# Altium integrated library TI Data Converters Digital to Analog Converter.IntLib: 1533 symbols (part 58 of 99)
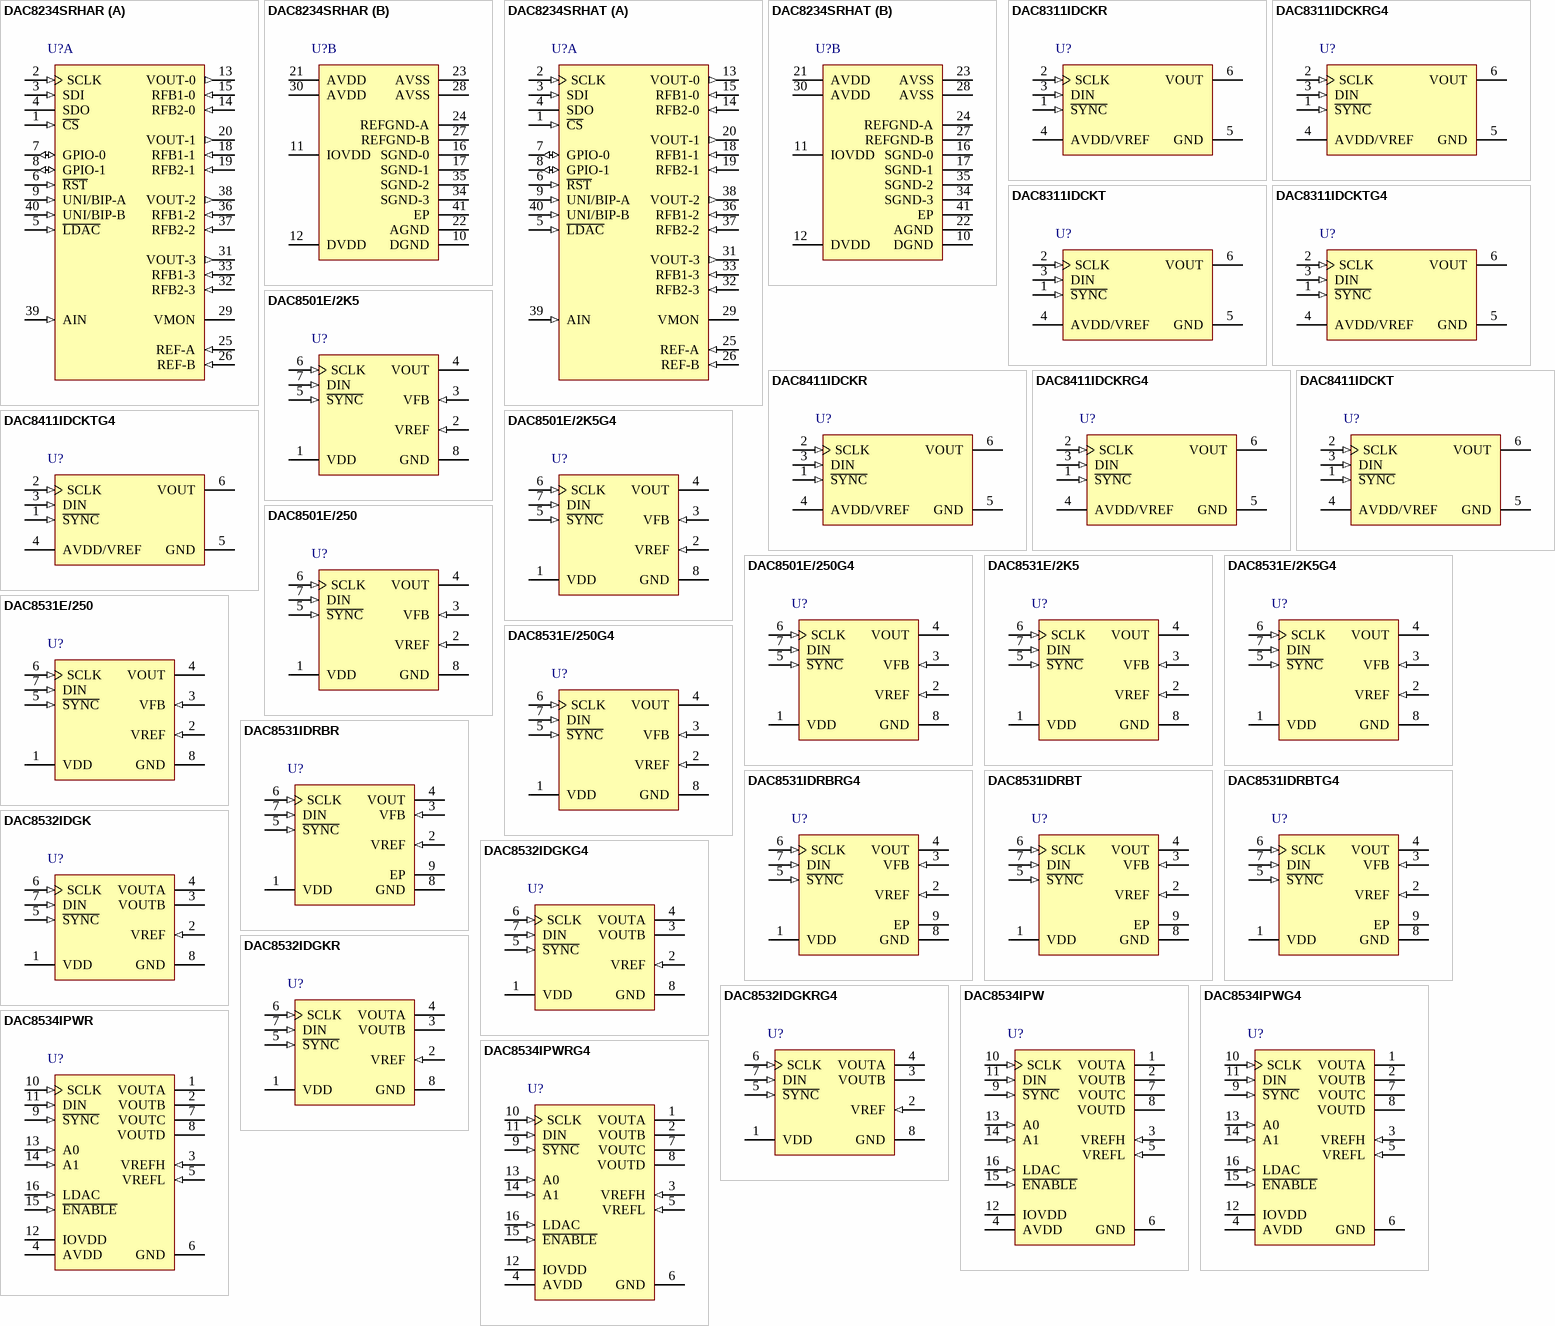
[diagram p130: symbols DAC8234SRHAR to DAC8534IPWRG4]

## DAC8531E/250
designator U?
Low Power, Rail-to-Rail Output, 16-Bit, Serial Input DAC, -40 to 105 degC, 8-pin SOP (DGK8), Green (RoHS & no Sb/Br); Manufacturer: Texas Instruments; PartNumber: DAC8531E/250; DAC Channels: 1; INL(Max)(+/-LSB): 64; Interface: Serial SPI; Power Consumption(Typ)(mW): 0.72; Resolution(Bits): 16; Settling Time(us): 10; SubFamily: Precision DAC (=<10MSPS); DatasheetVersion: SBAS192B; PackageVersion: 4073329/E, 05/2006; PackageReference: DGK8; PackageDescription: 8-Pin Thin Small Outline, Body 3 x 3 mm, Pitch 0.65 mm; Supplier 1: Digi-Key; Supplier Part Number 1: DAC8531E/250TR-ND; Supplier 2: Digi-Key; Supplier Part Number 2: DAC8531E/250CT-ND; Supplier 3: Digi-Key; Supplier Part Number 3: DAC8531E/250DKR-ND; Supplier 4: Farnell; Supplier Part Number 4: 1164167; Supplier 5: Newark; Supplier Part Number 5: 72K8437; Supplier 6: Mouser; Supplier Part Number 6: 595-DAC8531E/250; DNL(Max)(+/-LSB): 1; Eco-Plan: Green (RoHS & no Sb/Br); Mounting Technology: Surface Mount; Code_JEDEC: MO-187; ComponentLink1Description: Manufacturer URL; ComponentLink1URL: http://www.ti.com/; ComponentLink2Description: Datasheet; ComponentLink2URL: http://www.ti.com/general/docs/lit/getliterature.tsp?genericPartNumber=DAC8531&fileType=pdf; ComponentLink3Description: Package Specification; ComponentLink3URL: http://www.ti.com/litv/pdf/mpds028d
footprint TI-DGK8_N (SOP, 8-Leads, Body 3x3mm, Pitch 0.65mm, IPC Medium Density)
footprint TI-DGK8_L (SOP, 8-Leads, Body 3x3mm, Pitch 0.65mm, IPC High Density)
footprint TI-DGK8_M (SOP, 8-Leads, Body 3x3mm, Pitch 0.65mm, IPC Low Density)
pins: 1 VDD (power) "Power-Supply Input, +2.7V to +5.5V", 2 VREF (in) "Reference Voltage Input", 3 VFB (in) "Feedback connection for the output amplifier", 4 VOUT (hiz) "Analog output voltage from DAC. The output amplifier has rail-to-rail operation.", 5 ~{SYNC} (in) "Level-triggered control input (active LOW). This is the frame synchronization signal for the input data. When S\Y\N\C\ goes LOW, it enables the input shift register and data is transferred in on the falling edges of the (See Datasheet)", 6 SCLK (in) "Serial Clock Input. Data can be transferred at rates up to 30MHz.", 7 DIN (in) "Serial Data Input. Data is clocked into the 24-bit input shift register on the falling edge of the serial clock input.", 8 GND (power) "Ground reference point for all circuitry on the part."

## DAC8531E/250G4
designator U?
Low Power, Rail-to-Rail Output, 16-Bit, Serial Input DAC, -40 to 105 degC, 8-pin SOP (DGK8), Green (RoHS & no Sb/Br); Manufacturer: Texas Instruments; PartNumber: DAC8531E/250G4; DAC Channels: 1; INL(Max)(+/-LSB): 64; Interface: Serial SPI; Power Consumption(Typ)(mW): 0.72; Resolution(Bits): 16; Settling Time(us): 10; SubFamily: Precision DAC (=<10MSPS); DatasheetVersion: SBAS192B; PackageVersion: 4073329/E, 05/2006; PackageReference: DGK8; PackageDescription: 8-Pin Thin Small Outline, Body 3 x 3 mm, Pitch 0.65 mm; Supplier 1: Digi-Key; Supplier Part Number 1: DAC8531E/250G4-ND; Supplier 2: Farnell; Supplier Part Number 2: 1206856; Supplier 3: Newark; Supplier Part Number 3: 96K8424; Supplier 4: Newark; Supplier Part Number 4: 24K4541; Supplier 5: Mouser; Supplier Part Number 5: 595-DAC8531E/250G4; DNL(Max)(+/-LSB): 1; Eco-Plan: Green (RoHS & no Sb/Br); Mounting Technology: Surface Mount; Code_JEDEC: MO-187; ComponentLink1Description: Manufacturer URL; ComponentLink1URL: http://www.ti.com/; ComponentLink2Description: Datasheet; ComponentLink2URL: http://www.ti.com/general/docs/lit/getliterature.tsp?genericPartNumber=DAC8531&fileType=pdf; ComponentLink3Description: Package Specification; ComponentLink3URL: http://www.ti.com/litv/pdf/mpds028d
footprint TI-DGK8_N (SOP, 8-Leads, Body 3x3mm, Pitch 0.65mm, IPC Medium Density)
footprint TI-DGK8_L (SOP, 8-Leads, Body 3x3mm, Pitch 0.65mm, IPC High Density)
footprint TI-DGK8_M (SOP, 8-Leads, Body 3x3mm, Pitch 0.65mm, IPC Low Density)
pins: 1 VDD (power) "Power-Supply Input, +2.7V to +5.5V", 2 VREF (in) "Reference Voltage Input", 3 VFB (in) "Feedback connection for the output amplifier", 4 VOUT (hiz) "Analog output voltage from DAC. The output amplifier has rail-to-rail operation.", 5 ~{SYNC} (in) "Level-triggered control input (active LOW). This is the frame synchronization signal for the input data. When S\Y\N\C\ goes LOW, it enables the input shift register and data is transferred in on the falling edges of the (See Datasheet)", 6 SCLK (in) "Serial Clock Input. Data can be transferred at rates up to 30MHz.", 7 DIN (in) "Serial Data Input. Data is clocked into the 24-bit input shift register on the falling edge of the serial clock input.", 8 GND (power) "Ground reference point for all circuitry on the part."

## DAC8531IDRBR
designator U?
Low Power, Rail-to-Rail Output, 16-Bit, Serial Input DAC, -40 to 105 degC, 8-pin SON (DRB8), Green (RoHS & no Sb/Br); Manufacturer: Texas Instruments; PartNumber: DAC8531IDRBR; DAC Channels: 1; INL(Max)(+/-LSB): 64; Interface: Serial SPI; Power Consumption(Typ)(mW): 0.72; Resolution(Bits): 16; Settling Time(us): 10; SubFamily: Precision DAC (=<10MSPS); DatasheetVersion: SBAS192B; PackageVersion: 4203482-2/K, 06/2012; PackageReference: DRB8-2400X1650TP; PackageDescription: 8-Pin Plastic Small Outline, Body 3 x 3 mm, Pitch 0.65 mm; Supplier 1: Digi-Key; Supplier Part Number 1: DAC8531IDRBR-ND; Supplier 2: Mouser; Supplier Part Number 2: 595-DAC8531IDRBR; DNL(Max)(+/-LSB): 1; Eco-Plan: Green (RoHS & no Sb/Br); Mounting Technology: Surface Mount; ComponentLink1Description: Manufacturer URL; ComponentLink1URL: http://www.ti.com/; ComponentLink2Description: Datasheet; ComponentLink2URL: http://www.ti.com/general/docs/lit/getliterature.tsp?genericPartNumber=DAC8531&fileType=pdf; ComponentLink3Description: Package Specification; ComponentLink3URL: http://www.ti.com/litv/pdf/mpds118h
footprint TI-DRB8-2400X1650TP_V (SON, 8-Leads, Body 3x3mm, Pitch 0.65mm, Thermal Pad 2.4x1.65mm)
pins: 1 VDD (power) "Power-Supply Input, +2.7V to +5.5V.", 2 VREF (in) "Reference Voltage Input", 3 VFB (in) "Feedback connection for the output amplifier", 4 VOUT (hiz) "Analog output voltage from DAC. The output amplifier has rail-to-rail operation", 5 ~{SYNC} (in) "Level-triggered control input (active LOW). This is the frame sychronization signal for the input data. When S\Y\N\C\ goes LOW, it enables the input shift register and data is transferred in on the falling edges of the (See Datasheet)", 6 SCLK (in) "Serial Clock Input. Data can be transferred at rates up to 30MHz.", 7 DIN (in) "Serial Data Input. Data is clocked into the 24-bit input shift register on the falling edge of the seria clock input.", 8 GND (power) "Ground reference point for all circuitry on the part", 9 EP

## DAC8531IDRBRG4
designator U?
Low Power, Rail-to-Rail Output, 16-Bit, Serial Input DAC, -40 to 105 degC, 8-pin SON (DRB8), Green (RoHS & no Sb/Br); Manufacturer: Texas Instruments; PartNumber: DAC8531IDRBRG4; DAC Channels: 1; INL(Max)(+/-LSB): 64; Interface: Serial SPI; Power Consumption(Typ)(mW): 0.72; Resolution(Bits): 16; Settling Time(us): 10; SubFamily: Precision DAC (=<10MSPS); DatasheetVersion: SBAS192B; PackageVersion: 4203482-2/K, 06/2012; PackageReference: DRB8-2400X1650TP; PackageDescription: 8-Pin Plastic Small Outline, Body 3 x 3 mm, Pitch 0.65 mm; Supplier 1: Digi-Key; Supplier Part Number 1: DAC8531IDRBRG4-ND; Supplier 2: Mouser; Supplier Part Number 2: 595-DAC8531IDRBRG4; DNL(Max)(+/-LSB): 1; Eco-Plan: Green (RoHS & no Sb/Br); Mounting Technology: Surface Mount; ComponentLink1Description: Manufacturer URL; ComponentLink1URL: http://www.ti.com/; ComponentLink2Description: Datasheet; ComponentLink2URL: http://www.ti.com/general/docs/lit/getliterature.tsp?genericPartNumber=DAC8531&fileType=pdf; ComponentLink3Description: Package Specification; ComponentLink3URL: http://www.ti.com/litv/pdf/mpds118h
footprint TI-DRB8-2400X1650TP_V (SON, 8-Leads, Body 3x3mm, Pitch 0.65mm, Thermal Pad 2.4x1.65mm)
pins: 1 VDD (power) "Power-Supply Input, +2.7V to +5.5V.", 2 VREF (in) "Reference Voltage Input", 3 VFB (in) "Feedback connection for the output amplifier", 4 VOUT (hiz) "Analog output voltage from DAC. The output amplifier has rail-to-rail operation", 5 ~{SYNC} (in) "Level-triggered control input (active LOW). This is the frame sychronization signal for the input data. When S\Y\N\C\ goes LOW, it enables the input shift register and data is transferred in on the falling edges of the (See Datasheet)", 6 SCLK (in) "Serial Clock Input. Data can be transferred at rates up to 30MHz.", 7 DIN (in) "Serial Data Input. Data is clocked into the 24-bit input shift register on the falling edge of the seria clock input.", 8 GND (power) "Ground reference point for all circuitry on the part", 9 EP

## DAC8531IDRBT
designator U?
Low Power, Rail-to-Rail Output, 16-Bit, Serial Input DAC, -40 to 105 degC, 8-pin SON (DRB8), Green (RoHS & no Sb/Br); Manufacturer: Texas Instruments; PartNumber: DAC8531IDRBT; DAC Channels: 1; INL(Max)(+/-LSB): 64; Interface: Serial SPI; Power Consumption(Typ)(mW): 0.72; Resolution(Bits): 16; Settling Time(us): 10; SubFamily: Precision DAC (=<10MSPS); DatasheetVersion: SBAS192B; PackageVersion: 4203482-2/K, 06/2012; PackageReference: DRB8-2400X1650TP; PackageDescription: 8-Pin Plastic Small Outline, Body 3 x 3 mm, Pitch 0.65 mm; Supplier 1: Digi-Key; Supplier Part Number 1: 296-15727-2-ND; Supplier 2: Digi-Key; Supplier Part Number 2: 296-15727-1-ND; Supplier 3: Digi-Key; Supplier Part Number 3: 296-15727-6-ND; Supplier 4: Mouser; Supplier Part Number 4: 595-DAC8531IDRBT; DNL(Max)(+/-LSB): 1; Eco-Plan: Green (RoHS & no Sb/Br); Mounting Technology: Surface Mount; ComponentLink1Description: Manufacturer URL; ComponentLink1URL: http://www.ti.com/; ComponentLink2Description: Datasheet; ComponentLink2URL: http://www.ti.com/general/docs/lit/getliterature.tsp?genericPartNumber=DAC8531&fileType=pdf; ComponentLink3Description: Package Specification; ComponentLink3URL: http://www.ti.com/litv/pdf/mpds118h
footprint TI-DRB8-2400X1650TP_V (SON, 8-Leads, Body 3x3mm, Pitch 0.65mm, Thermal Pad 2.4x1.65mm)
pins: 1 VDD (power) "Power-Supply Input, +2.7V to +5.5V.", 2 VREF (in) "Reference Voltage Input", 3 VFB (in) "Feedback connection for the output amplifier", 4 VOUT (hiz) "Analog output voltage from DAC. The output amplifier has rail-to-rail operation", 5 ~{SYNC} (in) "Level-triggered control input (active LOW). This is the frame sychronization signal for the input data. When S\Y\N\C\ goes LOW, it enables the input shift register and data is transferred in on the falling edges of the (See Datasheet)", 6 SCLK (in) "Serial Clock Input. Data can be transferred at rates up to 30MHz.", 7 DIN (in) "Serial Data Input. Data is clocked into the 24-bit input shift register on the falling edge of the seria clock input.", 8 GND (power) "Ground reference point for all circuitry on the part", 9 EP

## DAC8531IDRBTG4
designator U?
Low Power, Rail-to-Rail Output, 16-Bit, Serial Input DAC, -40 to 105 degC, 8-pin SON (DRB8), Green (RoHS & no Sb/Br); Manufacturer: Texas Instruments; PartNumber: DAC8531IDRBTG4; DAC Channels: 1; INL(Max)(+/-LSB): 64; Interface: Serial SPI; Power Consumption(Typ)(mW): 0.72; Resolution(Bits): 16; Settling Time(us): 10; SubFamily: Precision DAC (=<10MSPS); DatasheetVersion: SBAS192B; PackageVersion: 4203482-2/K, 06/2012; PackageReference: DRB8-2400X1650TP; PackageDescription: 8-Pin Plastic Small Outline, Body 3 x 3 mm, Pitch 0.65 mm; Supplier 1: Digi-Key; Supplier Part Number 1: DAC8531IDRBTG4-ND; Supplier 2: Mouser; Supplier Part Number 2: 595-DAC8531IDRBTG4; DNL(Max)(+/-LSB): 1; Eco-Plan: Green (RoHS & no Sb/Br); Mounting Technology: Surface Mount; ComponentLink1Description: Manufacturer URL; ComponentLink1URL: http://www.ti.com/; ComponentLink2Description: Datasheet; ComponentLink2URL: http://www.ti.com/general/docs/lit/getliterature.tsp?genericPartNumber=DAC8531&fileType=pdf; ComponentLink3Description: Package Specification; ComponentLink3URL: http://www.ti.com/litv/pdf/mpds118h
footprint TI-DRB8-2400X1650TP_V (SON, 8-Leads, Body 3x3mm, Pitch 0.65mm, Thermal Pad 2.4x1.65mm)
pins: 1 VDD (power) "Power-Supply Input, +2.7V to +5.5V.", 2 VREF (in) "Reference Voltage Input", 3 VFB (in) "Feedback connection for the output amplifier", 4 VOUT (hiz) "Analog output voltage from DAC. The output amplifier has rail-to-rail operation", 5 ~{SYNC} (in) "Level-triggered control input (active LOW). This is the frame sychronization signal for the input data. When S\Y\N\C\ goes LOW, it enables the input shift register and data is transferred in on the falling edges of the (See Datasheet)", 6 SCLK (in) "Serial Clock Input. Data can be transferred at rates up to 30MHz.", 7 DIN (in) "Serial Data Input. Data is clocked into the 24-bit input shift register on the falling edge of the seria clock input.", 8 GND (power) "Ground reference point for all circuitry on the part", 9 EP

## DAC8532IDGK
designator U?
16-Bit, Dual Channel, Low Power D-to-A Converter with Serial Interface and Rail-to-Rail Voltage Output, -40 to 105 degC, 8-pin SOP (DGK8), Green (RoHS & no Sb/Br); Manufacturer: Texas Instruments; PartNumber: DAC8532IDGK; DAC Channels: 2; DNL(Max)(+/-LSB): 1; INL(Max)(+/-LSB): 65; Interface: Serial SPI; Power Consumption(Typ)(mW): 1.35; Resolution(Bits): 16; Settling Time(us): 8; SFDR(dB): 69; SNR(dB): 94; SubFamily: Precision DAC (=<10MSPS); DatasheetVersion: SBAS246A; PackageVersion: 4073329/E, 05/2006; PackageReference: DGK8; PackageDescription: 8-Pin Thin Small Outline, Body 3 x 3 mm, Pitch 0.65 mm; Supplier 1: Digi-Key; Supplier Part Number 1: DAC8532IDGK-ND; Supplier 2: Farnell; Supplier Part Number 2: 1100950; Supplier 3: Newark; Supplier Part Number 3: 74K3716; Supplier 4: Mouser; Supplier Part Number 4: 595-DAC8532IDGK; Eco-Plan: Green (RoHS & no Sb/Br); Mounting Technology: Surface Mount; Code_JEDEC: MO-187; ComponentLink1Description: Manufacturer URL; ComponentLink1URL: http://www.ti.com/; ComponentLink2Description: Datasheet; ComponentLink2URL: http://www.ti.com/general/docs/lit/getliterature.tsp?genericPartNumber=DAC8532&fileType=pdf; ComponentLink3Description: Package Specification; ComponentLink3URL: http://www.ti.com/litv/pdf/mpds028d
footprint TI-DGK8_N (SOP, 8-Leads, Body 3x3mm, Pitch 0.65mm, IPC Medium Density)
footprint TI-DGK8_L (SOP, 8-Leads, Body 3x3mm, Pitch 0.65mm, IPC High Density)
footprint TI-DGK8_M (SOP, 8-Leads, Body 3x3mm, Pitch 0.65mm, IPC Low Density)
pins: 1 VDD (power) "Power supply input, +2.7V to +5.5V.", 2 VREF (in) "Reference voltage input.", 3 VOUTB (hiz) "Analog output voltage from DAC B.", 4 VOUTA (hiz) "Analog output voltage from DAC A.", 5 ~{SYNC} (in) "Level triggered S\Y\N\C\ input (active LOW). This is the frame synchronization signal for the input data. When S\Y\N\C\ goes LOW, it enables the input shift register and data is transferred on the falling edge of SCLK. The (See Datasheet)", 6 SCLK (in) "Serial Clock Input. Data can be transferred at rates up to 30 MHz at 5V.", 7 DIN (in) "Serial Data Input. Data is clocked into the 24-bit input shift register on each falling edge of the serial clock input.", 8 GND (power) "Ground reference point for all circuitry on the part."

## DAC8532IDGKG4
designator U?
16-Bit, Dual Channel, Low Power D-to-A Converter with Serial Interface and Rail-to-Rail Voltage Output, -40 to 105 degC, 8-pin SOP (DGK8), Green (RoHS & no Sb/Br); Manufacturer: Texas Instruments; PartNumber: DAC8532IDGKG4; DAC Channels: 2; DNL(Max)(+/-LSB): 1; INL(Max)(+/-LSB): 65; Interface: Serial SPI; Power Consumption(Typ)(mW): 1.35; Resolution(Bits): 16; Settling Time(us): 8; SFDR(dB): 69; SNR(dB): 94; SubFamily: Precision DAC (=<10MSPS); DatasheetVersion: SBAS246A; PackageVersion: 4073329/E, 05/2006; PackageReference: DGK8; PackageDescription: 8-Pin Thin Small Outline, Body 3 x 3 mm, Pitch 0.65 mm; Supplier 1: Digi-Key; Supplier Part Number 1: DAC8532IDGKG4-ND; Supplier 2: Farnell; Supplier Part Number 2: 9324186; Supplier 3: Newark; Supplier Part Number 3: 38K0766; Supplier 4: Newark; Supplier Part Number 4: 73J8221; Supplier 5: Mouser; Supplier Part Number 5: 595-DAC8532IDGKG4; Eco-Plan: Green (RoHS & no Sb/Br); Mounting Technology: Surface Mount; Code_JEDEC: MO-187; ComponentLink1Description: Manufacturer URL; ComponentLink1URL: http://www.ti.com/; ComponentLink2Description: Datasheet; ComponentLink2URL: http://www.ti.com/general/docs/lit/getliterature.tsp?genericPartNumber=DAC8532&fileType=pdf; ComponentLink3Description: Package Specification; ComponentLink3URL: http://www.ti.com/litv/pdf/mpds028d
footprint TI-DGK8_N (SOP, 8-Leads, Body 3x3mm, Pitch 0.65mm, IPC Medium Density)
footprint TI-DGK8_L (SOP, 8-Leads, Body 3x3mm, Pitch 0.65mm, IPC High Density)
footprint TI-DGK8_M (SOP, 8-Leads, Body 3x3mm, Pitch 0.65mm, IPC Low Density)
pins: 1 VDD (power) "Power supply input, +2.7V to +5.5V.", 2 VREF (in) "Reference voltage input.", 3 VOUTB (hiz) "Analog output voltage from DAC B.", 4 VOUTA (hiz) "Analog output voltage from DAC A.", 5 ~{SYNC} (in) "Level triggered S\Y\N\C\ input (active LOW). This is the frame synchronization signal for the input data. When S\Y\N\C\ goes LOW, it enables the input shift register and data is transferred on the falling edge of SCLK. The (See Datasheet)", 6 SCLK (in) "Serial Clock Input. Data can be transferred at rates up to 30 MHz at 5V.", 7 DIN (in) "Serial Data Input. Data is clocked into the 24-bit input shift register on each falling edge of the serial clock input.", 8 GND (power) "Ground reference point for all circuitry on the part."

## DAC8532IDGKR
designator U?
16-Bit, Dual Channel, Low Power D-to-A Converter with Serial Interface and Rail-to-Rail Voltage Output, -40 to 105 degC, 8-pin SOP (DGK8), Green (RoHS & no Sb/Br); Manufacturer: Texas Instruments; PartNumber: DAC8532IDGKR; DAC Channels: 2; DNL(Max)(+/-LSB): 1; INL(Max)(+/-LSB): 65; Interface: Serial SPI; Power Consumption(Typ)(mW): 1.35; Resolution(Bits): 16; Settling Time(us): 8; SFDR(dB): 69; SNR(dB): 94; SubFamily: Precision DAC (=<10MSPS); DatasheetVersion: SBAS246A; PackageVersion: 4073329/E, 05/2006; PackageReference: DGK8; PackageDescription: 8-Pin Thin Small Outline, Body 3 x 3 mm, Pitch 0.65 mm; Supplier 1: Digi-Key; Supplier Part Number 1: DAC8532IDGKR-ND; Supplier 2: Newark; Supplier Part Number 2: 74C9302; Supplier 3: Mouser; Supplier Part Number 3: 595-DAC8532IDGKR; Eco-Plan: Green (RoHS & no Sb/Br); Mounting Technology: Surface Mount; Code_JEDEC: MO-187; ComponentLink1Description: Manufacturer URL; ComponentLink1URL: http://www.ti.com/; ComponentLink2Description: Datasheet; ComponentLink2URL: http://www.ti.com/general/docs/lit/getliterature.tsp?genericPartNumber=DAC8532&fileType=pdf; ComponentLink3Description: Package Specification; ComponentLink3URL: http://www.ti.com/litv/pdf/mpds028d
footprint TI-DGK8_N (SOP, 8-Leads, Body 3x3mm, Pitch 0.65mm, IPC Medium Density)
footprint TI-DGK8_L (SOP, 8-Leads, Body 3x3mm, Pitch 0.65mm, IPC High Density)
footprint TI-DGK8_M (SOP, 8-Leads, Body 3x3mm, Pitch 0.65mm, IPC Low Density)
pins: 1 VDD (power) "Power supply input, +2.7V to +5.5V.", 2 VREF (in) "Reference voltage input.", 3 VOUTB (hiz) "Analog output voltage from DAC B.", 4 VOUTA (hiz) "Analog output voltage from DAC A.", 5 ~{SYNC} (in) "Level triggered S\Y\N\C\ input (active LOW). This is the frame synchronization signal for the input data. When S\Y\N\C\ goes LOW, it enables the input shift register and data is transferred on the falling edge of SCLK. The (See Datasheet)", 6 SCLK (in) "Serial Clock Input. Data can be transferred at rates up to 30 MHz at 5V.", 7 DIN (in) "Serial Data Input. Data is clocked into the 24-bit input shift register on each falling edge of the serial clock input.", 8 GND (power) "Ground reference point for all circuitry on the part."

## DAC8532IDGKRG4
designator U?
16-Bit, Dual Channel, Low Power D-to-A Converter with Serial Interface and Rail-to-Rail Voltage Output, -40 to 105 degC, 8-pin SOP (DGK8), Green (RoHS & no Sb/Br); Manufacturer: Texas Instruments; PartNumber: DAC8532IDGKRG4; DAC Channels: 2; DNL(Max)(+/-LSB): 1; INL(Max)(+/-LSB): 65; Interface: Serial SPI; Power Consumption(Typ)(mW): 1.35; Resolution(Bits): 16; Settling Time(us): 8; SFDR(dB): 69; SNR(dB): 94; SubFamily: Precision DAC (=<10MSPS); DatasheetVersion: SBAS246A; PackageVersion: 4073329/E, 05/2006; PackageReference: DGK8; PackageDescription: 8-Pin Thin Small Outline, Body 3 x 3 mm, Pitch 0.65 mm; Supplier 1: Digi-Key; Supplier Part Number 1: DAC8532IDGKRG4-ND; Supplier 2: Newark; Supplier Part Number 2: 73J8222; Supplier 3: Mouser; Supplier Part Number 3: 595-DAC8532IDGKRG4; Eco-Plan: Green (RoHS & no Sb/Br); Mounting Technology: Surface Mount; Code_JEDEC: MO-187; ComponentLink1Description: Manufacturer URL; ComponentLink1URL: http://www.ti.com/; ComponentLink2Description: Datasheet; ComponentLink2URL: http://www.ti.com/general/docs/lit/getliterature.tsp?genericPartNumber=DAC8532&fileType=pdf; ComponentLink3Description: Package Specification; ComponentLink3URL: http://www.ti.com/litv/pdf/mpds028d
footprint TI-DGK8_N (SOP, 8-Leads, Body 3x3mm, Pitch 0.65mm, IPC Medium Density)
footprint TI-DGK8_L (SOP, 8-Leads, Body 3x3mm, Pitch 0.65mm, IPC High Density)
footprint TI-DGK8_M (SOP, 8-Leads, Body 3x3mm, Pitch 0.65mm, IPC Low Density)
pins: 1 VDD (power) "Power supply input, +2.7V to +5.5V.", 2 VREF (in) "Reference voltage input.", 3 VOUTB (hiz) "Analog output voltage from DAC B.", 4 VOUTA (hiz) "Analog output voltage from DAC A.", 5 ~{SYNC} (in) "Level triggered S\Y\N\C\ input (active LOW). This is the frame synchronization signal for the input data. When S\Y\N\C\ goes LOW, it enables the input shift register and data is transferred on the falling edge of SCLK. The (See Datasheet)", 6 SCLK (in) "Serial Clock Input. Data can be transferred at rates up to 30 MHz at 5V.", 7 DIN (in) "Serial Data Input. Data is clocked into the 24-bit input shift register on each falling edge of the serial clock input.", 8 GND (power) "Ground reference point for all circuitry on the part."

## DAC8534IPW
designator U?
2.7 to 5.5 V, Quad Channel, 16-Bit, Serial Input DAC, -40 to 105 degC, 16-pin SOP (PW16), Green (RoHS & no Sb/Br); Manufacturer: Texas Instruments; PartNumber: DAC8534IPW; DAC Channels: 4; DNL(Max)(+/-LSB): 1; INL(Max)(+/-LSB): 64; Interface: Serial SPI; Power Consumption(Typ)(mW): 2.7; Resolution(Bits): 16; Settling Time(us): 10; SFDR(dB): 69; SNR(dB): 94; SubFamily: Precision DAC (=<10MSPS); DatasheetVersion: SBAS254D; PackageVersion: 4040064-4/G, 02/2011; PackageReference: PW16; PackageDescription: 16-Pin Plastic Small Outline, Body 5 x 4.4 mm, Pitch 0.65 mm; Supplier 1: Digi-Key; Supplier Part Number 1: 296-13718-5-ND; Supplier 2: Newark; Supplier Part Number 2: 02E2685; Supplier 3: Mouser; Supplier Part Number 3: 595-DAC8534IPW; Eco-Plan: Green (RoHS & no Sb/Br); Mounting Technology: Surface Mount; Code_JEDEC: MO-153; ComponentLink1Description: Manufacturer URL; ComponentLink1URL: http://www.ti.com/; ComponentLink2Description: Datasheet; ComponentLink2URL: http://www.ti.com/general/docs/lit/getliterature.tsp?genericPartNumber=DAC8534&fileType=pdf; ComponentLink3Description: Package Specification; ComponentLink3URL: http://www.ti.com/lit/ml/mpds361/mpds361.pdf
footprint TI-PW16_N (SOP, 16-Leads, Body 5x4.4mm, Pitch 0.65mm, IPC Medium Density)
footprint TI-PW16_L (SOP, 16-Leads, Body 5x4.4mm, Pitch 0.65mm, IPC High Density)
footprint TI-PW16_M (SOP, 16-Leads, Body 5x4.4mm, Pitch 0.65mm, IPC Low Density)
pins: 1 VOUTA (hiz) "Analog output voltage from DAC A", 2 VOUTB (hiz) "Analog output voltage from DAC B", 3 VREFH (in) "Positive reference input", 4 AVDD (power) "Power-supply input, 2.7V to 5.5V", 5 VREFL (in) "Negative reference input", 6 GND (power) "Ground reference point for all circuitry on the part", 7 VOUTC (hiz) "Analog output voltage from DAC C", 8 VOUTD (hiz) "Analog output voltage from DAC D", 9 ~{SYNC} (in) "Level-triggered control input (active low). This input is the frame synchronization signal for the input data. When S\Y\N\C\ goes low, it enables the input shift register, and data are sampled on subsequent falling clock (See Datasheet)", 10 SCLK (in) "Serial clock input. Data can be transferred at rates up to 50MHz. Schmitt-Trigger logic input.", 11 DIN (in) "Serial data input. Data are clocked into the 24-bit input shift register on each falling edge of the serial clock input. Schmitt-Trigger logic input.", 12 IOVDD (power) "Digital input-output power supply", 13 A0 (in) "Address 0-sets device address; see Table 5.", 14 A1 (in) "Address 1-sets device address; see Table 5.", 15 ~{ENABLE} (in) "The E\N\A\B\L\E\ pin (active low) connects the SPI interface to the serial port", 16 LDAC (in) "Load DACs; rising edge triggered, loads all DAC registers"

## DAC8534IPWG4
designator U?
2.7 to 5.5 V, Quad Channel, 16-Bit, Serial Input DAC, -40 to 105 degC, 16-pin SOP (PW16), Green (RoHS & no Sb/Br); Manufacturer: Texas Instruments; PartNumber: DAC8534IPWG4; DAC Channels: 4; DNL(Max)(+/-LSB): 1; INL(Max)(+/-LSB): 64; Interface: Serial SPI; Power Consumption(Typ)(mW): 2.7; Resolution(Bits): 16; Settling Time(us): 10; SFDR(dB): 69; SNR(dB): 94; SubFamily: Precision DAC (=<10MSPS); DatasheetVersion: SBAS254D; PackageVersion: 4040064-4/G, 02/2011; PackageReference: PW16; PackageDescription: 16-Pin Plastic Small Outline, Body 5 x 4.4 mm, Pitch 0.65 mm; Supplier 1: Digi-Key; Supplier Part Number 1: DAC8534IPWG4-ND; Supplier 2: Farnell; Supplier Part Number 2: 9324194; Supplier 3: Newark; Supplier Part Number 3: 38K0768; Supplier 4: Mouser; Supplier Part Number 4: 595-DAC8534IPWG4; Eco-Plan: Green (RoHS & no Sb/Br); Mounting Technology: Surface Mount; Code_JEDEC: MO-153; ComponentLink1Description: Manufacturer URL; ComponentLink1URL: http://www.ti.com/; ComponentLink2Description: Datasheet; ComponentLink2URL: http://www.ti.com/general/docs/lit/getliterature.tsp?genericPartNumber=DAC8534&fileType=pdf; ComponentLink3Description: Package Specification; ComponentLink3URL: http://www.ti.com/lit/ml/mpds361/mpds361.pdf
footprint TI-PW16_N (SOP, 16-Leads, Body 5x4.4mm, Pitch 0.65mm, IPC Medium Density)
footprint TI-PW16_L (SOP, 16-Leads, Body 5x4.4mm, Pitch 0.65mm, IPC High Density)
footprint TI-PW16_M (SOP, 16-Leads, Body 5x4.4mm, Pitch 0.65mm, IPC Low Density)
pins: 1 VOUTA (hiz) "Analog output voltage from DAC A", 2 VOUTB (hiz) "Analog output voltage from DAC B", 3 VREFH (in) "Positive reference input", 4 AVDD (power) "Power-supply input, 2.7V to 5.5V", 5 VREFL (in) "Negative reference input", 6 GND (power) "Ground reference point for all circuitry on the part", 7 VOUTC (hiz) "Analog output voltage from DAC C", 8 VOUTD (hiz) "Analog output voltage from DAC D", 9 ~{SYNC} (in) "Level-triggered control input (active low). This input is the frame synchronization signal for the input data. When S\Y\N\C\ goes low, it enables the input shift register, and data are sampled on subsequent falling clock (See Datasheet)", 10 SCLK (in) "Serial clock input. Data can be transferred at rates up to 50MHz. Schmitt-Trigger logic input.", 11 DIN (in) "Serial data input. Data are clocked into the 24-bit input shift register on each falling edge of the serial clock input. Schmitt-Trigger logic input.", 12 IOVDD (power) "Digital input-output power supply", 13 A0 (in) "Address 0-sets device address; see Table 5.", 14 A1 (in) "Address 1-sets device address; see Table 5.", 15 ~{ENABLE} (in) "The E\N\A\B\L\E\ pin (active low) connects the SPI interface to the serial port", 16 LDAC (in) "Load DACs; rising edge triggered, loads all DAC registers"

## DAC8534IPWR
designator U?
2.7 to 5.5 V, Quad Channel, 16-Bit, Serial Input DAC, -40 to 105 degC, 16-pin SOP (PW16), Green (RoHS & no Sb/Br); Manufacturer: Texas Instruments; PartNumber: DAC8534IPWR; DAC Channels: 4; DNL(Max)(+/-LSB): 1; INL(Max)(+/-LSB): 64; Interface: Serial SPI; Power Consumption(Typ)(mW): 2.7; Resolution(Bits): 16; Settling Time(us): 10; SFDR(dB): 69; SNR(dB): 94; SubFamily: Precision DAC (=<10MSPS); DatasheetVersion: SBAS254D; PackageVersion: 4040064-4/G, 02/2011; PackageReference: PW16; PackageDescription: 16-Pin Plastic Small Outline, Body 5 x 4.4 mm, Pitch 0.65 mm; Supplier 1: Digi-Key; Supplier Part Number 1: DAC8534IPWR-ND; Supplier 2: Newark; Supplier Part Number 2: 02E2686; Supplier 3: Mouser; Supplier Part Number 3: 595-DAC8534IPWR; Eco-Plan: Green (RoHS & no Sb/Br); Mounting Technology: Surface Mount; Code_JEDEC: MO-153; ComponentLink1Description: Manufacturer URL; ComponentLink1URL: http://www.ti.com/; ComponentLink2Description: Datasheet; ComponentLink2URL: http://www.ti.com/general/docs/lit/getliterature.tsp?genericPartNumber=DAC8534&fileType=pdf; ComponentLink3Description: Package Specification; ComponentLink3URL: http://www.ti.com/lit/ml/mpds361/mpds361.pdf
footprint TI-PW16_N (SOP, 16-Leads, Body 5x4.4mm, Pitch 0.65mm, IPC Medium Density)
footprint TI-PW16_L (SOP, 16-Leads, Body 5x4.4mm, Pitch 0.65mm, IPC High Density)
footprint TI-PW16_M (SOP, 16-Leads, Body 5x4.4mm, Pitch 0.65mm, IPC Low Density)
pins: 1 VOUTA (hiz) "Analog output voltage from DAC A", 2 VOUTB (hiz) "Analog output voltage from DAC B", 3 VREFH (in) "Positive reference input", 4 AVDD (power) "Power-supply input, 2.7V to 5.5V", 5 VREFL (in) "Negative reference input", 6 GND (power) "Ground reference point for all circuitry on the part", 7 VOUTC (hiz) "Analog output voltage from DAC C", 8 VOUTD (hiz) "Analog output voltage from DAC D", 9 ~{SYNC} (in) "Level-triggered control input (active low). This input is the frame synchronization signal for the input data. When S\Y\N\C\ goes low, it enables the input shift register, and data are sampled on subsequent falling clock (See Datasheet)", 10 SCLK (in) "Serial clock input. Data can be transferred at rates up to 50MHz. Schmitt-Trigger logic input.", 11 DIN (in) "Serial data input. Data are clocked into the 24-bit input shift register on each falling edge of the serial clock input. Schmitt-Trigger logic input.", 12 IOVDD (power) "Digital input-output power supply", 13 A0 (in) "Address 0-sets device address; see Table 5.", 14 A1 (in) "Address 1-sets device address; see Table 5.", 15 ~{ENABLE} (in) "The E\N\A\B\L\E\ pin (active low) connects the SPI interface to the serial port", 16 LDAC (in) "Load DACs; rising edge triggered, loads all DAC registers"

## DAC8534IPWRG4
designator U?
2.7 to 5.5 V, Quad Channel, 16-Bit, Serial Input DAC, -40 to 105 degC, 16-pin SOP (PW16), Green (RoHS & no Sb/Br); Manufacturer: Texas Instruments; PartNumber: DAC8534IPWRG4; DAC Channels: 4; DNL(Max)(+/-LSB): 1; INL(Max)(+/-LSB): 64; Interface: Serial SPI; Power Consumption(Typ)(mW): 2.7; Resolution(Bits): 16; Settling Time(us): 10; SFDR(dB): 69; SNR(dB): 94; SubFamily: Precision DAC (=<10MSPS); DatasheetVersion: SBAS254D; PackageVersion: 4040064-4/G, 02/2011; PackageReference: PW16; PackageDescription: 16-Pin Plastic Small Outline, Body 5 x 4.4 mm, Pitch 0.65 mm; Supplier 1: Digi-Key; Supplier Part Number 1: DAC8534IPWRG4-ND; Supplier 2: Mouser; Supplier Part Number 2: 595-DAC8534IPWRG4; Eco-Plan: Green (RoHS & no Sb/Br); Mounting Technology: Surface Mount; Code_JEDEC: MO-153; ComponentLink1Description: Manufacturer URL; ComponentLink1URL: http://www.ti.com/; ComponentLink2Description: Datasheet; ComponentLink2URL: http://www.ti.com/general/docs/lit/getliterature.tsp?genericPartNumber=DAC8534&fileType=pdf; ComponentLink3Description: Package Specification; ComponentLink3URL: http://www.ti.com/lit/ml/mpds361/mpds361.pdf
footprint TI-PW16_N (SOP, 16-Leads, Body 5x4.4mm, Pitch 0.65mm, IPC Medium Density)
footprint TI-PW16_L (SOP, 16-Leads, Body 5x4.4mm, Pitch 0.65mm, IPC High Density)
footprint TI-PW16_M (SOP, 16-Leads, Body 5x4.4mm, Pitch 0.65mm, IPC Low Density)
pins: 1 VOUTA (hiz) "Analog output voltage from DAC A", 2 VOUTB (hiz) "Analog output voltage from DAC B", 3 VREFH (in) "Positive reference input", 4 AVDD (power) "Power-supply input, 2.7V to 5.5V", 5 VREFL (in) "Negative reference input", 6 GND (power) "Ground reference point for all circuitry on the part", 7 VOUTC (hiz) "Analog output voltage from DAC C", 8 VOUTD (hiz) "Analog output voltage from DAC D", 9 ~{SYNC} (in) "Level-triggered control input (active low). This input is the frame synchronization signal for the input data. When S\Y\N\C\ goes low, it enables the input shift register, and data are sampled on subsequent falling clock (See Datasheet)", 10 SCLK (in) "Serial clock input. Data can be transferred at rates up to 50MHz. Schmitt-Trigger logic input.", 11 DIN (in) "Serial data input. Data are clocked into the 24-bit input shift register on each falling edge of the serial clock input. Schmitt-Trigger logic input.", 12 IOVDD (power) "Digital input-output power supply", 13 A0 (in) "Address 0-sets device address; see Table 5.", 14 A1 (in) "Address 1-sets device address; see Table 5.", 15 ~{ENABLE} (in) "The E\N\A\B\L\E\ pin (active low) connects the SPI interface to the serial port", 16 LDAC (in) "Load DACs; rising edge triggered, loads all DAC registers"

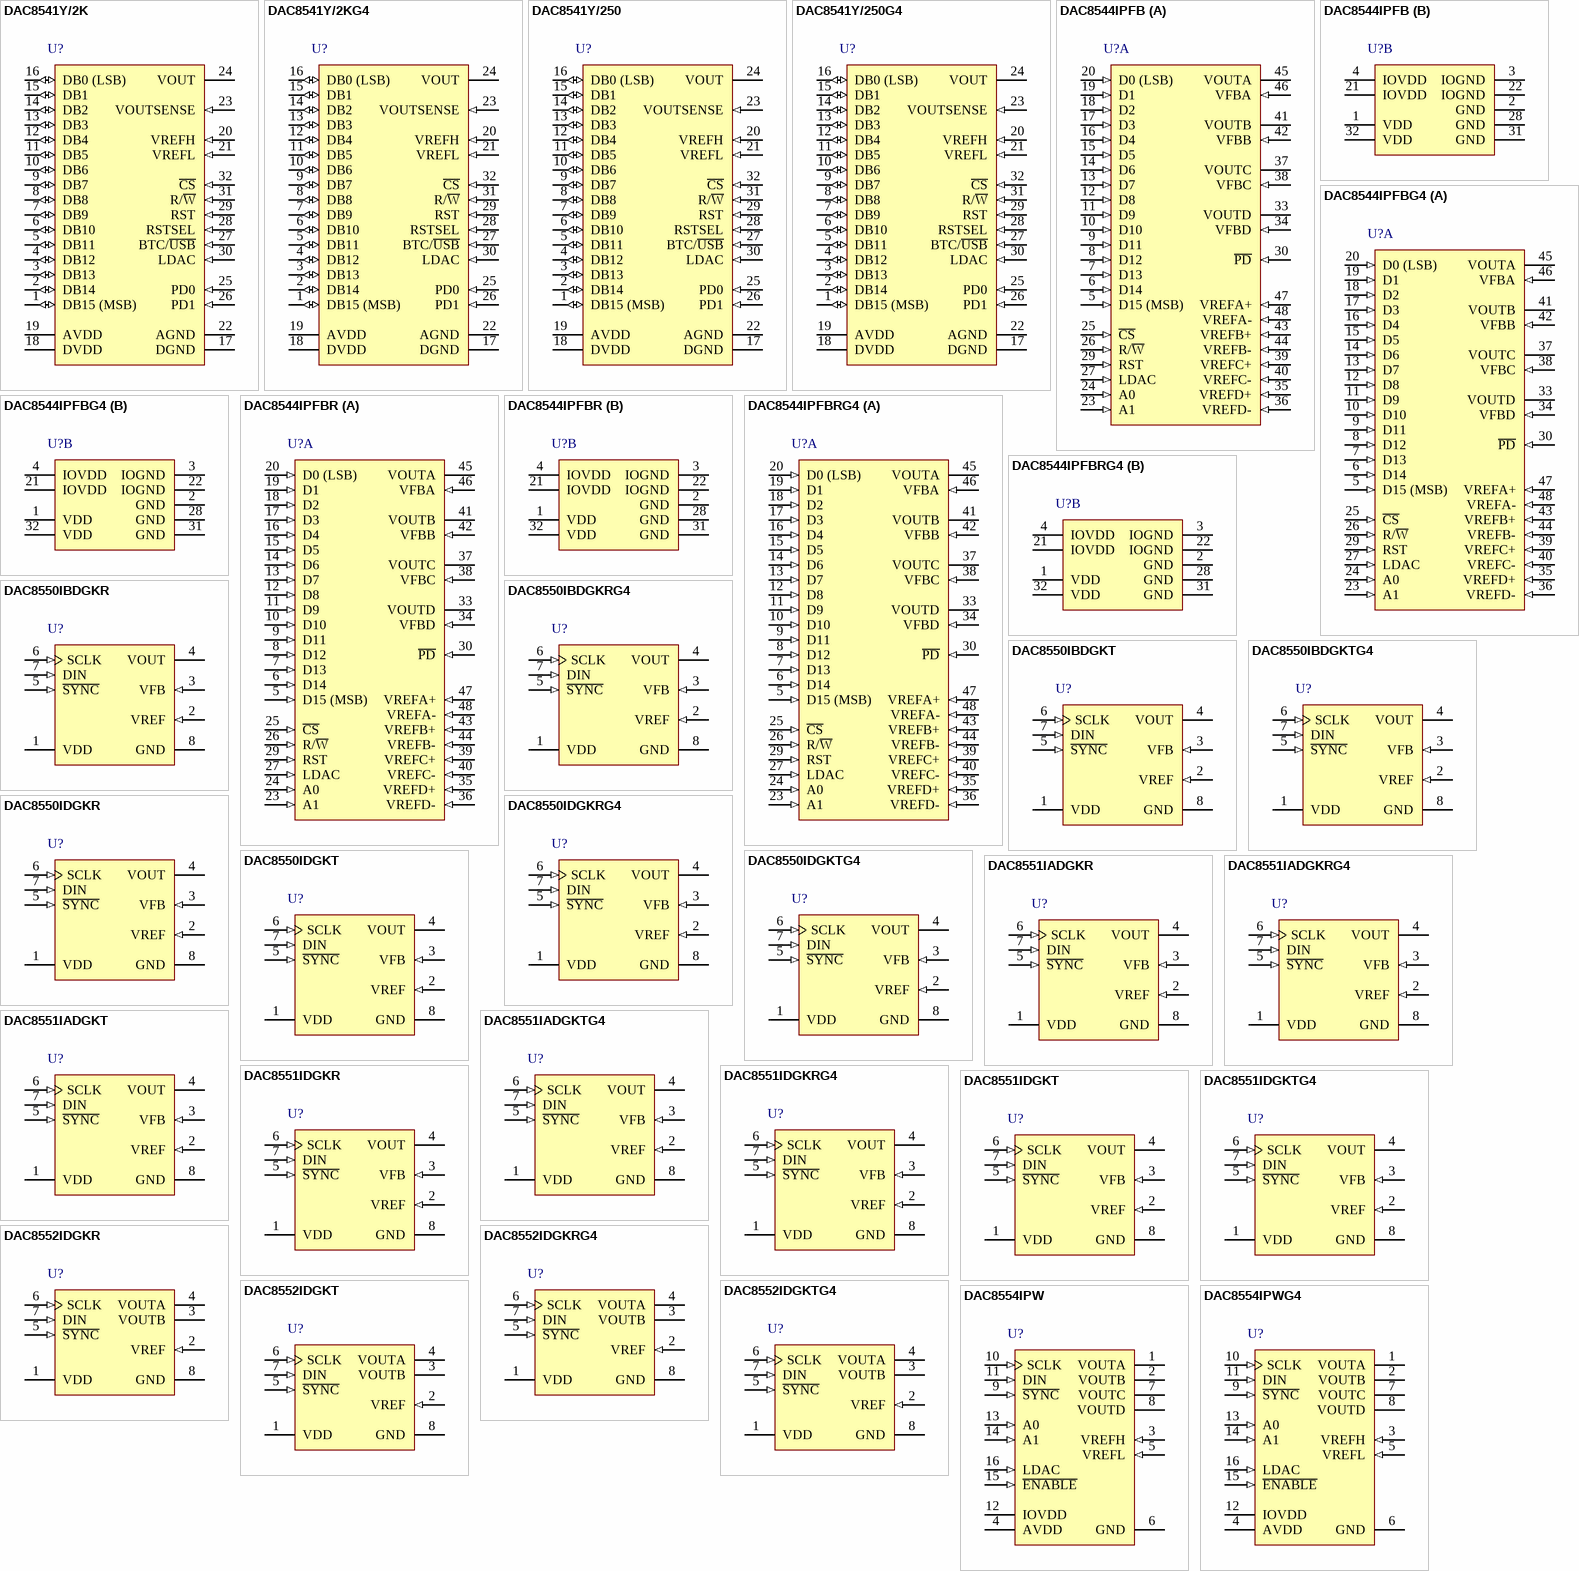
[diagram p46: symbols DAC8541Y/2K to DAC8554IPWG4]

## DAC8541Y/2K
designator U?
Low Power, 16-Bit D-to-A Converter with 1.8 V Compatible Parallel Interface, Rail-to-Rail Voltage Output, -40 to 85 degC, 32-pin QFP (PBS32), Green (RoHS & no Sb/Br); Manufacturer: Texas Instruments; PartNumber: DAC8541Y/2K; DAC Channels: 1; INL(Max)(+/-LSB): 65; Power Consumption(Typ)(mW): 0.72; Resolution(Bits): 16; Settling Time(us): 10; SubFamily: Precision DAC (=<10MSPS); DatasheetVersion: SLAS353; PackageVersion: 4087735/B, 07/2005; PackageReference: PBS32; PackageDescription: 32-Pin Plastic Flat Pack, Body 5 X 5 mm, Pitch 0.5 mm; Supplier 1: Digi-Key; Supplier Part Number 1: DAC8541Y/2K-ND; Supplier 2: Newark; Supplier Part Number 2: 74C9303; Supplier 3: Mouser; Supplier Part Number 3: 595-DAC8541Y/2K; DNL(Max)(+/-LSB): 1; Eco-Plan: Green (RoHS & no Sb/Br); Interface: Parallel; Mounting Technology: Surface Mount; Code_JEDEC: MS-026; ComponentLink1Description: Manufacturer URL; ComponentLink1URL: http://www.ti.com/; ComponentLink2Description: Datasheet; ComponentLink2URL: http://www.ti.com/general/docs/lit/getliterature.tsp?genericPartNumber=DAC8541&fileType=pdf; ComponentLink3Description: Package Specification; ComponentLink3URL: http://www.ti.com/lit/ml/mpqf027a/mpqf027a.pdf
footprint TI-PBS32_N (QFP, 32-Leads, Body 5x5mm, Pitch 0.5mm, IPC Medium Density)
footprint TI-PBS32_L (QFP, 32-Leads, Body 5x5mm, Pitch 0.5mm, IPC High Density)
footprint TI-PBS32_M (QFP, 32-Leads, Body 5x5mm, Pitch 0.5mm, IPC Low Density)
pins: 1 DB15 (MSB) (io) "Data input/output, (pin 1-MSB: pin 16-LSB)", 2 DB14 (io) "Data input/output, (pin 1-MSB: pin 16-LSB)", 3 DB13 (io) "Data input/output, (pin 1-MSB: pin 16-LSB)", 4 DB12 (io) "Data input/output, (pin 1-MSB: pin 16-LSB)", 5 DB11 (io) "Data input/output, (pin 1-MSB: pin 16-LSB)", 6 DB10 (io) "Data input/output, (pin 1-MSB: pin 16-LSB)", 7 DB9 (io) "Data input/output, (pin 1-MSB: pin 16-LSB)", 8 DB8 (io) "Data input/output, (pin 1-MSB: pin 16-LSB)", 9 DB7 (io) "Data input/output, (pin 1-MSB: pin 16-LSB)", 10 DB6 (io) "Data input/output, (pin 1-MSB: pin 16-LSB)", 11 DB5 (io) "Data input/output, (pin 1-MSB: pin 16-LSB)", 12 DB4 (io) "Data input/output, (pin 1-MSB: pin 16-LSB)", 13 DB3 (io) "Data input/output, (pin 1-MSB: pin 16-LSB)", 14 DB2 (io) "Data input/output, (pin 1-MSB: pin 16-LSB)", 15 DB1 (io) "Data input/output, (pin 1-MSB: pin 16-LSB)", 16 DB0 (LSB) (io) "Data input/output, (pin 1-MSB: pin 16-LSB)", 17 DGND (power) "Digital ground", 18 DVDD (power) "Digital supply input, 1.8 V to 5.5 V", 19 AVDD (power) "Analog power supply input, 2.7 V to 5.5 V", 20 VREFH (in) "Positive reference voltage input (referenced to AGND)", 21 VREFL (in) "Negative reference voltage input (referenced to AGND), nominally VREFL = AGND", 22 AGND (power) "Analog ground", 23 VOUTSENSE (in) "Analog output sense. The feedback terminal of the output amplifier.", 24 VOUT (hiz) "Analog output voltage from DAC. The output amplifier has rail-to-rail operation.", 25 PD0 (in) "Powerdown control bit 0", 26 PD1 (in) "Powerdown control bit 1", 27 BTC/~{USB} (in) "Data input format: binary twos complement or unipolar straight binary", 28 RSTSEL (in) "Reset VOUT on active RST to min-scale (RSTSEL = 0) or mid-scale (RSTSEL = 1)", 29 RST (in) "VOUT reset to min-scale or mid-scale, rising edge (Does not reset input register data.)", 30 LDAC (in) "Asynchronous load command, rising edge", 31 R/~{W} (in) "Read/Write control input", 32 ~{CS} (in) "Chip select, active low"

## DAC8541Y/2KG4
designator U?
Low Power, 16-Bit D-to-A Converter with 1.8 V Compatible Parallel Interface, Rail-to-Rail Voltage Output, -40 to 85 degC, 32-pin QFP (PBS32), Green (RoHS & no Sb/Br); Manufacturer: Texas Instruments; PartNumber: DAC8541Y/2KG4; DAC Channels: 1; INL(Max)(+/-LSB): 65; Power Consumption(Typ)(mW): 0.72; Resolution(Bits): 16; Settling Time(us): 10; SubFamily: Precision DAC (=<10MSPS); DatasheetVersion: SLAS353; PackageVersion: 4087735/B, 07/2005; PackageReference: PBS32; PackageDescription: 32-Pin Plastic Flat Pack, Body 5 X 5 mm, Pitch 0.5 mm; Supplier 1: Digi-Key; Supplier Part Number 1: DAC8541Y/2KG4-ND; Supplier 2: Newark; Supplier Part Number 2: 14M1955; Supplier 3: Mouser; Supplier Part Number 3: 595-DAC8541Y/2KG4; DNL(Max)(+/-LSB): 1; Eco-Plan: Green (RoHS & no Sb/Br); Interface: Parallel; Mounting Technology: Surface Mount; Code_JEDEC: MS-026; ComponentLink1Description: Manufacturer URL; ComponentLink1URL: http://www.ti.com/; ComponentLink2Description: Datasheet; ComponentLink2URL: http://www.ti.com/general/docs/lit/getliterature.tsp?genericPartNumber=DAC8541&fileType=pdf; ComponentLink3Description: Package Specification; ComponentLink3URL: http://www.ti.com/lit/ml/mpqf027a/mpqf027a.pdf
footprint TI-PBS32_N (QFP, 32-Leads, Body 5x5mm, Pitch 0.5mm, IPC Medium Density)
footprint TI-PBS32_L (QFP, 32-Leads, Body 5x5mm, Pitch 0.5mm, IPC High Density)
footprint TI-PBS32_M (QFP, 32-Leads, Body 5x5mm, Pitch 0.5mm, IPC Low Density)
pins: 1 DB15 (MSB) (io) "Data input/output, (pin 1-MSB: pin 16-LSB)", 2 DB14 (io) "Data input/output, (pin 1-MSB: pin 16-LSB)", 3 DB13 (io) "Data input/output, (pin 1-MSB: pin 16-LSB)", 4 DB12 (io) "Data input/output, (pin 1-MSB: pin 16-LSB)", 5 DB11 (io) "Data input/output, (pin 1-MSB: pin 16-LSB)", 6 DB10 (io) "Data input/output, (pin 1-MSB: pin 16-LSB)", 7 DB9 (io) "Data input/output, (pin 1-MSB: pin 16-LSB)", 8 DB8 (io) "Data input/output, (pin 1-MSB: pin 16-LSB)", 9 DB7 (io) "Data input/output, (pin 1-MSB: pin 16-LSB)", 10 DB6 (io) "Data input/output, (pin 1-MSB: pin 16-LSB)", 11 DB5 (io) "Data input/output, (pin 1-MSB: pin 16-LSB)", 12 DB4 (io) "Data input/output, (pin 1-MSB: pin 16-LSB)", 13 DB3 (io) "Data input/output, (pin 1-MSB: pin 16-LSB)", 14 DB2 (io) "Data input/output, (pin 1-MSB: pin 16-LSB)", 15 DB1 (io) "Data input/output, (pin 1-MSB: pin 16-LSB)", 16 DB0 (LSB) (io) "Data input/output, (pin 1-MSB: pin 16-LSB)", 17 DGND (power) "Digital ground", 18 DVDD (power) "Digital supply input, 1.8 V to 5.5 V", 19 AVDD (power) "Analog power supply input, 2.7 V to 5.5 V", 20 VREFH (in) "Positive reference voltage input (referenced to AGND)", 21 VREFL (in) "Negative reference voltage input (referenced to AGND), nominally VREFL = AGND", 22 AGND (power) "Analog ground", 23 VOUTSENSE (in) "Analog output sense. The feedback terminal of the output amplifier.", 24 VOUT (hiz) "Analog output voltage from DAC. The output amplifier has rail-to-rail operation.", 25 PD0 (in) "Powerdown control bit 0", 26 PD1 (in) "Powerdown control bit 1", 27 BTC/~{USB} (in) "Data input format: binary twos complement or unipolar straight binary", 28 RSTSEL (in) "Reset VOUT on active RST to min-scale (RSTSEL = 0) or mid-scale (RSTSEL = 1)", 29 RST (in) "VOUT reset to min-scale or mid-scale, rising edge (Does not reset input register data.)", 30 LDAC (in) "Asynchronous load command, rising edge", 31 R/~{W} (in) "Read/Write control input", 32 ~{CS} (in) "Chip select, active low"

## DAC8541Y/250
designator U?
Low Power, 16-Bit D-to-A Converter with 1.8 V Compatible Parallel Interface, Rail-to-Rail Voltage Output, -40 to 85 degC, 32-pin QFP (PBS32), Green (RoHS & no Sb/Br); Manufacturer: Texas Instruments; PartNumber: DAC8541Y/250; DAC Channels: 1; INL(Max)(+/-LSB): 65; Power Consumption(Typ)(mW): 0.72; Resolution(Bits): 16; Settling Time(us): 10; SubFamily: Precision DAC (=<10MSPS); DatasheetVersion: SLAS353; PackageVersion: 4087735/B, 07/2005; PackageReference: PBS32; PackageDescription: 32-Pin Plastic Flat Pack, Body 5 X 5 mm, Pitch 0.5 mm; Supplier 1: Digi-Key; Supplier Part Number 1: 296-12427-2-ND; Supplier 2: Digi-Key; Supplier Part Number 2: 296-12427-1-ND; Supplier 3: Digi-Key; Supplier Part Number 3: 296-12427-6-ND; Supplier 4: Newark; Supplier Part Number 4: 88K1070; Supplier 5: Mouser; Supplier Part Number 5: 595-DAC8541Y/250; DNL(Max)(+/-LSB): 1; Eco-Plan: Green (RoHS & no Sb/Br); Interface: Parallel; Mounting Technology: Surface Mount; Code_JEDEC: MS-026; ComponentLink1Description: Manufacturer URL; ComponentLink1URL: http://www.ti.com/; ComponentLink2Description: Datasheet; ComponentLink2URL: http://www.ti.com/general/docs/lit/getliterature.tsp?genericPartNumber=DAC8541&fileType=pdf; ComponentLink3Description: Package Specification; ComponentLink3URL: http://www.ti.com/lit/ml/mpqf027a/mpqf027a.pdf
footprint TI-PBS32_N (QFP, 32-Leads, Body 5x5mm, Pitch 0.5mm, IPC Medium Density)
footprint TI-PBS32_L (QFP, 32-Leads, Body 5x5mm, Pitch 0.5mm, IPC High Density)
footprint TI-PBS32_M (QFP, 32-Leads, Body 5x5mm, Pitch 0.5mm, IPC Low Density)
pins: 1 DB15 (MSB) (io) "Data input/output, (pin 1-MSB: pin 16-LSB)", 2 DB14 (io) "Data input/output, (pin 1-MSB: pin 16-LSB)", 3 DB13 (io) "Data input/output, (pin 1-MSB: pin 16-LSB)", 4 DB12 (io) "Data input/output, (pin 1-MSB: pin 16-LSB)", 5 DB11 (io) "Data input/output, (pin 1-MSB: pin 16-LSB)", 6 DB10 (io) "Data input/output, (pin 1-MSB: pin 16-LSB)", 7 DB9 (io) "Data input/output, (pin 1-MSB: pin 16-LSB)", 8 DB8 (io) "Data input/output, (pin 1-MSB: pin 16-LSB)", 9 DB7 (io) "Data input/output, (pin 1-MSB: pin 16-LSB)", 10 DB6 (io) "Data input/output, (pin 1-MSB: pin 16-LSB)", 11 DB5 (io) "Data input/output, (pin 1-MSB: pin 16-LSB)", 12 DB4 (io) "Data input/output, (pin 1-MSB: pin 16-LSB)", 13 DB3 (io) "Data input/output, (pin 1-MSB: pin 16-LSB)", 14 DB2 (io) "Data input/output, (pin 1-MSB: pin 16-LSB)", 15 DB1 (io) "Data input/output, (pin 1-MSB: pin 16-LSB)", 16 DB0 (LSB) (io) "Data input/output, (pin 1-MSB: pin 16-LSB)", 17 DGND (power) "Digital ground", 18 DVDD (power) "Digital supply input, 1.8 V to 5.5 V", 19 AVDD (power) "Analog power supply input, 2.7 V to 5.5 V", 20 VREFH (in) "Positive reference voltage input (referenced to AGND)", 21 VREFL (in) "Negative reference voltage input (referenced to AGND), nominally VREFL = AGND", 22 AGND (power) "Analog ground", 23 VOUTSENSE (in) "Analog output sense. The feedback terminal of the output amplifier.", 24 VOUT (hiz) "Analog output voltage from DAC. The output amplifier has rail-to-rail operation.", 25 PD0 (in) "Powerdown control bit 0", 26 PD1 (in) "Powerdown control bit 1", 27 BTC/~{USB} (in) "Data input format: binary twos complement or unipolar straight binary", 28 RSTSEL (in) "Reset VOUT on active RST to min-scale (RSTSEL = 0) or mid-scale (RSTSEL = 1)", 29 RST (in) "VOUT reset to min-scale or mid-scale, rising edge (Does not reset input register data.)", 30 LDAC (in) "Asynchronous load command, rising edge", 31 R/~{W} (in) "Read/Write control input", 32 ~{CS} (in) "Chip select, active low"

## DAC8541Y/250G4
designator U?
Low Power, 16-Bit D-to-A Converter with 1.8 V Compatible Parallel Interface, Rail-to-Rail Voltage Output, -40 to 85 degC, 32-pin QFP (PBS32), Green (RoHS & no Sb/Br); Manufacturer: Texas Instruments; PartNumber: DAC8541Y/250G4; DAC Channels: 1; INL(Max)(+/-LSB): 65; Power Consumption(Typ)(mW): 0.72; Resolution(Bits): 16; Settling Time(us): 10; SubFamily: Precision DAC (=<10MSPS); DatasheetVersion: SLAS353; PackageVersion: 4087735/B, 07/2005; PackageReference: PBS32; PackageDescription: 32-Pin Plastic Flat Pack, Body 5 X 5 mm, Pitch 0.5 mm; Supplier 1: Digi-Key; Supplier Part Number 1: DAC8541Y/250G4-ND; Supplier 2: Newark; Supplier Part Number 2: 14M1956; Supplier 3: Mouser; Supplier Part Number 3: 595-DAC8541Y/250G4; DNL(Max)(+/-LSB): 1; Eco-Plan: Green (RoHS & no Sb/Br); Interface: Parallel; Mounting Technology: Surface Mount; Code_JEDEC: MS-026; ComponentLink1Description: Manufacturer URL; ComponentLink1URL: http://www.ti.com/; ComponentLink2Description: Datasheet; ComponentLink2URL: http://www.ti.com/general/docs/lit/getliterature.tsp?genericPartNumber=DAC8541&fileType=pdf; ComponentLink3Description: Package Specification; ComponentLink3URL: http://www.ti.com/lit/ml/mpqf027a/mpqf027a.pdf
footprint TI-PBS32_N (QFP, 32-Leads, Body 5x5mm, Pitch 0.5mm, IPC Medium Density)
footprint TI-PBS32_L (QFP, 32-Leads, Body 5x5mm, Pitch 0.5mm, IPC High Density)
footprint TI-PBS32_M (QFP, 32-Leads, Body 5x5mm, Pitch 0.5mm, IPC Low Density)
pins: 1 DB15 (MSB) (io) "Data input/output, (pin 1-MSB: pin 16-LSB)", 2 DB14 (io) "Data input/output, (pin 1-MSB: pin 16-LSB)", 3 DB13 (io) "Data input/output, (pin 1-MSB: pin 16-LSB)", 4 DB12 (io) "Data input/output, (pin 1-MSB: pin 16-LSB)", 5 DB11 (io) "Data input/output, (pin 1-MSB: pin 16-LSB)", 6 DB10 (io) "Data input/output, (pin 1-MSB: pin 16-LSB)", 7 DB9 (io) "Data input/output, (pin 1-MSB: pin 16-LSB)", 8 DB8 (io) "Data input/output, (pin 1-MSB: pin 16-LSB)", 9 DB7 (io) "Data input/output, (pin 1-MSB: pin 16-LSB)", 10 DB6 (io) "Data input/output, (pin 1-MSB: pin 16-LSB)", 11 DB5 (io) "Data input/output, (pin 1-MSB: pin 16-LSB)", 12 DB4 (io) "Data input/output, (pin 1-MSB: pin 16-LSB)", 13 DB3 (io) "Data input/output, (pin 1-MSB: pin 16-LSB)", 14 DB2 (io) "Data input/output, (pin 1-MSB: pin 16-LSB)", 15 DB1 (io) "Data input/output, (pin 1-MSB: pin 16-LSB)", 16 DB0 (LSB) (io) "Data input/output, (pin 1-MSB: pin 16-LSB)", 17 DGND (power) "Digital ground", 18 DVDD (power) "Digital supply input, 1.8 V to 5.5 V", 19 AVDD (power) "Analog power supply input, 2.7 V to 5.5 V", 20 VREFH (in) "Positive reference voltage input (referenced to AGND)", 21 VREFL (in) "Negative reference voltage input (referenced to AGND), nominally VREFL = AGND", 22 AGND (power) "Analog ground", 23 VOUTSENSE (in) "Analog output sense. The feedback terminal of the output amplifier.", 24 VOUT (hiz) "Analog output voltage from DAC. The output amplifier has rail-to-rail operation.", 25 PD0 (in) "Powerdown control bit 0", 26 PD1 (in) "Powerdown control bit 1", 27 BTC/~{USB} (in) "Data input format: binary twos complement or unipolar straight binary", 28 RSTSEL (in) "Reset VOUT on active RST to min-scale (RSTSEL = 0) or mid-scale (RSTSEL = 1)", 29 RST (in) "VOUT reset to min-scale or mid-scale, rising edge (Does not reset input register data.)", 30 LDAC (in) "Asynchronous load command, rising edge", 31 R/~{W} (in) "Read/Write control input", 32 ~{CS} (in) "Chip select, active low"